# EAGLE library part CC1000 (library chipcon)
single chip very low power RF Transceiver 315/433/868 and 915 MHz ISM/SRD
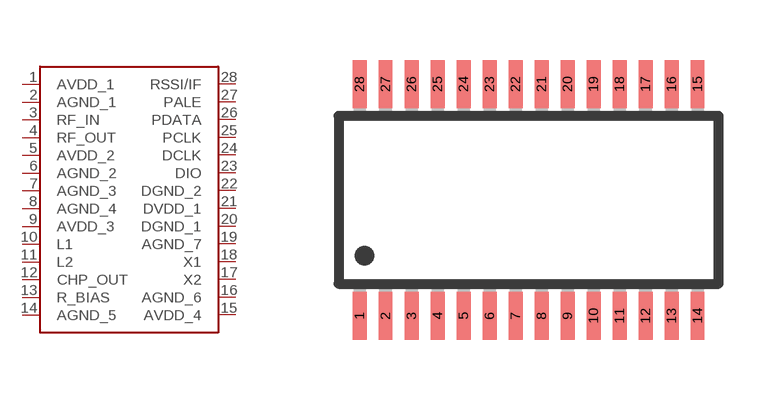
[diagram p0: symbol with the pads of TSSOP28; footprint TSSOP28]

Designator prefix -

## CC1000  [TSSOP28]
1  AVDD_1
2  AGND_1
3  RF_IN
4  RF_OUT
5  AVDD_2
6  AGND_2
7  AGND_3
8  AGND_4
9  AVDD_3
10  L1
11  L2
12  CHP_OUT
13  R_BIAS
14  AGND_5
15  AVDD_4
16  AGND_6
17  X2
18  X1
19  AGND_7
20  DGND_1
21  DVDD_1
22  DGND_2
23  DIO
24  DCLK
25  PCLK
26  PDATA
27  PALE
28  RSSI/IF

## Footprint TSSOP28 (pad centres in mm)
28-Lead TSSOP Package RU-28
smd 0.35 x 1.2: 1 -4.225,-2.9; 2 -3.575,-2.9; 3 -2.925,-2.9; 4 -2.275,-2.9; 5 -1.625,-2.9; 6 -0.975,-2.9; 7 -0.325,-2.9; 8 0.325,-2.9; 9 0.975,-2.9; 10 1.625,-2.9; 11 2.275,-2.9; 12 2.925,-2.9; 13 3.575,-2.9; 14 4.225,-2.9; 15 4.225,2.9; 16 3.575,2.9; 17 2.925,2.9; 18 2.275,2.9; 19 1.625,2.9; 20 0.975,2.9; 21 0.325,2.9; 22 -0.325,2.9; 23 -0.975,2.9; 24 -1.625,2.9; 25 -2.275,2.9; 26 -2.925,2.9; 27 -3.575,2.9; 28 -4.225,2.9